# EAGLE library part BTM77(42G/45G/52G) (library PP_PowerIC)
Manufacturer Part #: BTM7742G / BTM7745G / BTM7752G Manufacturer: Infineon Technologies Description: Motor / Motion / Ignition Controllers & Drivers Hi Current H-Bridge Trilith IC 3G
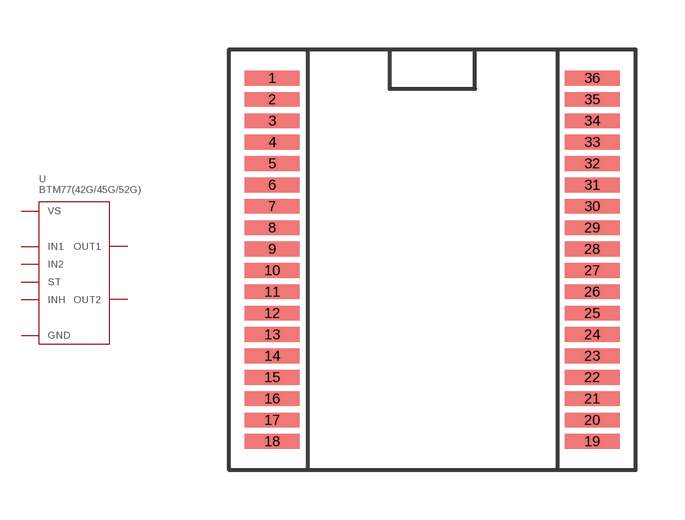
[diagram p0: symbol with the pads of PG-DSO-36-29; footprint PG-DSO-36-29]

Designator prefix U

## BTM77(42G/45G/52G)  [PG-DSO-36-29]
1  OUT1
2  OUT1
3  OUT1
4  OUT1
5  GND
6  GND
7  GND
8  GND
9  IN1
10  IN2
11  VS
12  VS
13  VS
14  VS
15  OUT2
16  OUT2
17  OUT2
18  OUT2
19  OUT2
20  OUT2
21  OUT2
22  OUT2
23  GND
24  GND
25  GND
26  GND
27  INH
28  ST
29  VS
30  VS
31  VS
32  VS
33  OUT1
34  OUT1
35  OUT1
36  OUT1

## Footprint PG-DSO-36-29 (pad centres in mm)
smd 1.67 x 0.45: 1 -4.865,5.525; 2 -4.865,4.875; 3 -4.865,4.225; 4 -4.865,3.575; 5 -4.865,2.925; 6 -4.865,2.275; 7 -4.865,1.625; 8 -4.865,0.975; 9 -4.865,0.325; 10 -4.865,-0.325; 11 -4.865,-0.975; 12 -4.865,-1.625; 13 -4.865,-2.275; 14 -4.865,-2.925; 15 -4.865,-3.575; 16 -4.865,-4.225; 17 -4.865,-4.875; 18 -4.865,-5.525; 19 4.865,-5.525; 20 4.865,-4.875; 21 4.865,-4.225; 22 4.865,-3.575; 23 4.865,-2.925; 24 4.865,-2.275; 25 4.865,-1.625; 26 4.865,-0.975; 27 4.865,-0.325; 28 4.865,0.325; 29 4.865,0.975; 30 4.865,1.625; 31 4.865,2.275; 32 4.865,2.925; 33 4.865,3.575; 34 4.865,4.225; 35 4.865,4.875; 36 4.865,5.525